# EAGLE library part 693012040811 (library Wurth_Elektronik_Electromechanic_Input-Output_Connectors_rev15c)
WR -CRD Mini SIM Hinge_type_6 pins=>Code : Con_I-O_COM_CRD_SIM_Mini_693012040811 <http://katalog.we-online.de/media/images/eican/Con_I-O_COM_CRD_SIM_Mini_693012040811_pf2.jpg> Details see: http://katalog.we-online.de/en/em/693_012_040_811 Created 2014-07-09, Karrer Zheng 2014 (C) Würth Elektronik
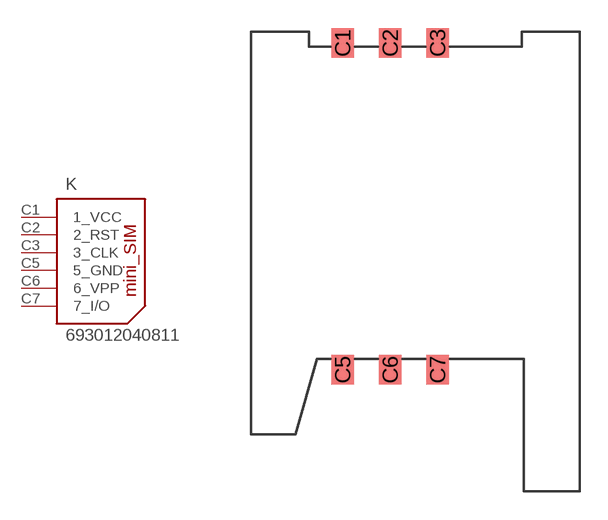
[diagram p143: symbol with the pads of 693012040811; footprint 693012040811]

Designator prefix K

## 693012040811  [693012040811]
C1  1_VCC
C2  2_RST
C3  3_CLK
C5  5_GND
C6  6_VPP
C7  7_I/O

## Footprint 693012040811 (pad centres in mm)
WR -CRD Mini SIM Hinge_type_6 pins
smd 1.2 x 1.6: C1 0,17.48; C2 2.54,17.48; C3 5.08,17.48; C5 0,0; C6 2.54,0; C7 5.08,0